# Altium schematic symbol library WT32-S1.SchLib: 1 symbol
Pins are listed as number, name and electrical type; pins without a type are passive.

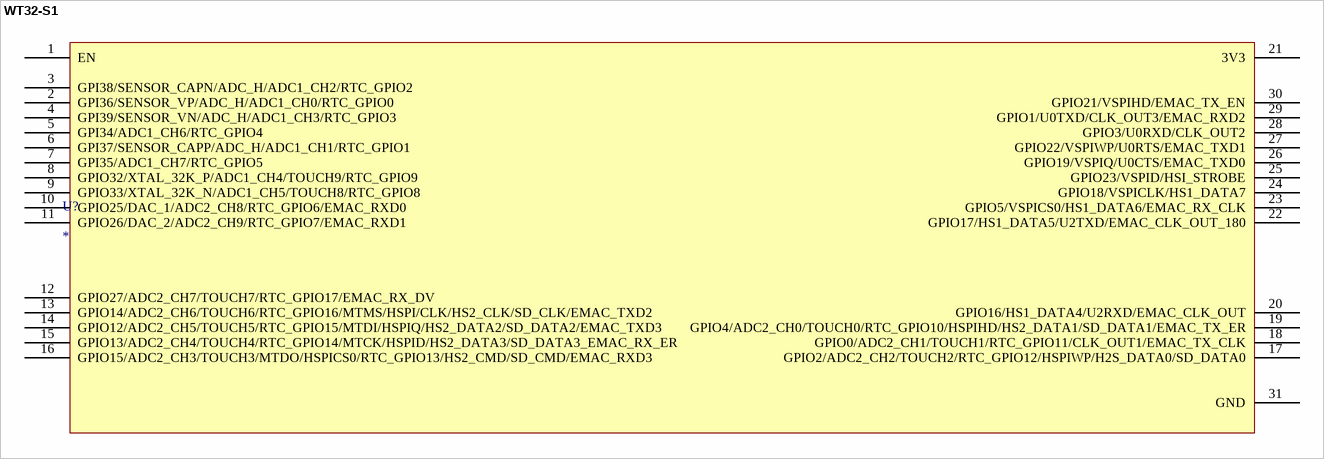
[diagram p0: symbol WT32-S1]

## WT32-S1
designator U?
pins: 1 EN, 2 GPI36/SENSOR_VP/ADC_H/ADC1_CH0/RTC_GPIO0, 3 GPI38/SENSOR_CAPN/ADC_H/ADC1_CH2/RTC_GPIO2, 4 GPI39/SENSOR_VN/ADC_H/ADC1_CH3/RTC_GPIO3, 5 GPI34/ADC1_CH6/RTC_GPIO4, 6 GPI37/SENSOR_CAPP/ADC_H/ADC1_CH1/RTC_GPIO1, 7 GPI35/ADC1_CH7/RTC_GPIO5, 8 GPIO32/XTAL_32K_P/ADC1_CH4/TOUCH9/RTC_GPIO9, 9 GPIO33/XTAL_32K_N/ADC1_CH5/TOUCH8/RTC_GPIO8, 10 GPIO25/DAC_1/ADC2_CH8/RTC_GPIO6/EMAC_RXD0, 11 GPIO26/DAC_2/ADC2_CH9/RTC_GPIO7/EMAC_RXD1, 12 GPIO27/ADC2_CH7/TOUCH7/RTC_GPIO17/EMAC_RX_DV, 13 GPIO14/ADC2_CH6/TOUCH6/RTC_GPIO16/MTMS/HSPI/CLK/HS2_CLK/SD_CLK/EMAC_TXD2, 14 GPIO12/ADC2_CH5/TOUCH5/RTC_GPIO15/MTDI/HSPIQ/HS2_DATA2/SD_DATA2/EMAC_TXD3, 15 GPIO13/ADC2_CH4/TOUCH4/RTC_GPIO14/MTCK/HSPID/HS2_DATA3/SD_DATA3_EMAC_RX_ER, 16 GPIO15/ADC2_CH3/TOUCH3/MTDO/HSPICS0/RTC_GPIO13/HS2_CMD/SD_CMD/EMAC_RXD3, 17 GPIO2/ADC2_CH2/TOUCH2/RTC_GPIO12/HSPIWP/H2S_DATA0/SD_DATA0, 18 GPIO0/ADC2_CH1/TOUCH1/RTC_GPIO11/CLK_OUT1/EMAC_TX_CLK, 19 GPIO4/ADC2_CH0/TOUCH0/RTC_GPIO10/HSPIHD/HS2_DATA1/SD_DATA1/EMAC_TX_ER, 20 GPIO16/HS1_DATA4/U2RXD/EMAC_CLK_OUT, 21 3V3, 22 GPIO17/HS1_DATA5/U2TXD/EMAC_CLK_OUT_180, 23 GPIO5/VSPICS0/HS1_DATA6/EMAC_RX_CLK, 24 GPIO18/VSPICLK/HS1_DATA7, 25 GPIO23/VSPID/HSI_STROBE, 26 GPIO19/VSPIQ/U0CTS/EMAC_TXD0, 27 GPIO22/VSPIWP/U0RTS/EMAC_TXD1, 28 GPIO3/U0RXD/CLK_OUT2, 29 GPIO1/U0TXD/CLK_OUT3/EMAC_RXD2, 30 GPIO21/VSPIHD/EMAC_TX_EN, 31 GND